# Altium schematic symbol library Inductors.SchLib: 16 symbols
Pins are listed as number, name and electrical type; pins without a type are passive.

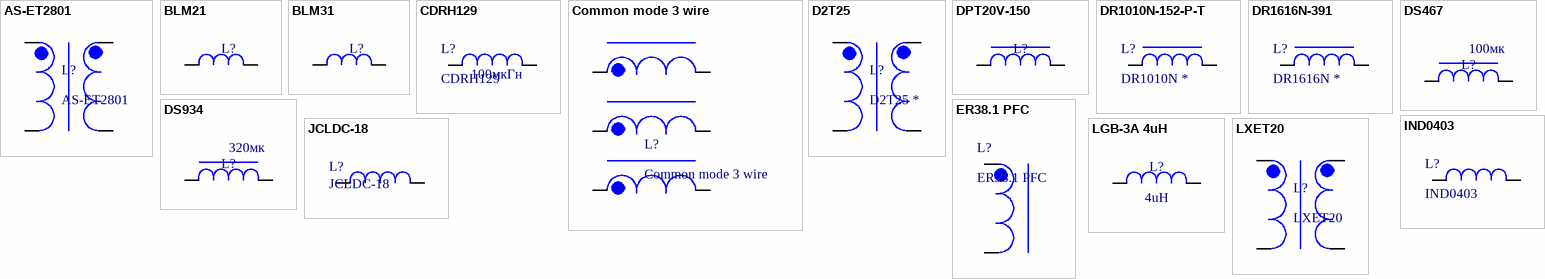
[diagram p0: symbols AS-ET2801 to LXET20]

## AS-ET2801
designator L?
ComponentDescription: AS-ET2801
footprint ET28
pins: 1 E1, 2 S1, 3 E2, 4 S2

## BLM21
designator L?  (value not drawn)
ComponentDescription: BLM21, *; Value: *
footprint L0805
pins: 1, 2

## BLM31
designator L?  (value not drawn)
ComponentDescription: BLM31, *; Value: *
footprint RES1206 (Chip Resistor, 2-Leads, Body 3,20x1,60mm, IPC Medium Density)
pins: 1, 2

## CDRH129
designator L?  value 100мкГн
ComponentDescription: CDRH129 100мкГн
footprint IND12.5x12.5
pins: 1, 2

## Common mode 3 wire
designator L?
ComponentDescription: Common mode 3 wire
footprint D10 3 wire
pins: 1, 2, 3, 4, 5, 6

## D2T25
designator L?, comment D2T25 *
ComponentDescription: =Comment+' ' + Value; Value: *
footprint D2T25V
footprint D2T25V - duplicate
pins: 1 E1, 2 S1, 3 E2, 4 S2

## DPT20V-150
designator L?, comment DPT20V-150 *  (value not drawn)
ComponentDescription: =Comment; Value: *
footprint D25 C11
pins: 1, 2

## DR1010N-152-P-T
designator L?, comment DR1010N *
ComponentDescription: =Comment; Value: *
footprint DR1010N-152-P-T
pins: 1, 2

## DR1616N-391
designator L?, comment DR1616N *
ComponentDescription: =Comment; Value: *
footprint DR1616
pins: 1, 2

## DS467
designator L?, comment value 100мк  (hidden comment: DS467 100мк)
ComponentDescription: =Comment
footprint T46,7/24,1/18
pins: 1, 2

## DS934
designator L?, comment value 320мк  (hidden comment: DS934 320мк)
ComponentDescription: =Comment+' ' + Value
footprint DS934
pins: 1, 2

## ER38.1 PFC
designator L?
ComponentDescription: ER38.1 PFC
footprint ER38.1
pins: 1 S2, 2 E2

## IND0403
designator L?
ComponentDescription: IND0403
footprint INDP4540X23N (Precision Wire Wound Inductor, 2-Leads, Body 4,50x4,00mm, IPC Medium Density)
pins: 1, 2

## JCLDC-18
designator L?
ComponentDescription: JCLDC-18
footprint JCLDC18
pins: 1, 2

## LGB-3A 4uH
designator L?, comment value 4uH  (hidden comment: LGB-3A)
ComponentDescription: LGB-3A 4uH
footprint RC15X5P900
footprint RC15X5P900 - duplicate
pins: 1, 2

## LXET20
designator L?
ComponentDescription: LXET20 *; Value: *
footprint UU16
pins: 1 E1, 2 S1, 3 E2, 4 S2